# EAGLE library part FT232RL (library GClue)
FT232RL FTDI FT232RL USB to serial UART interface SSOP28
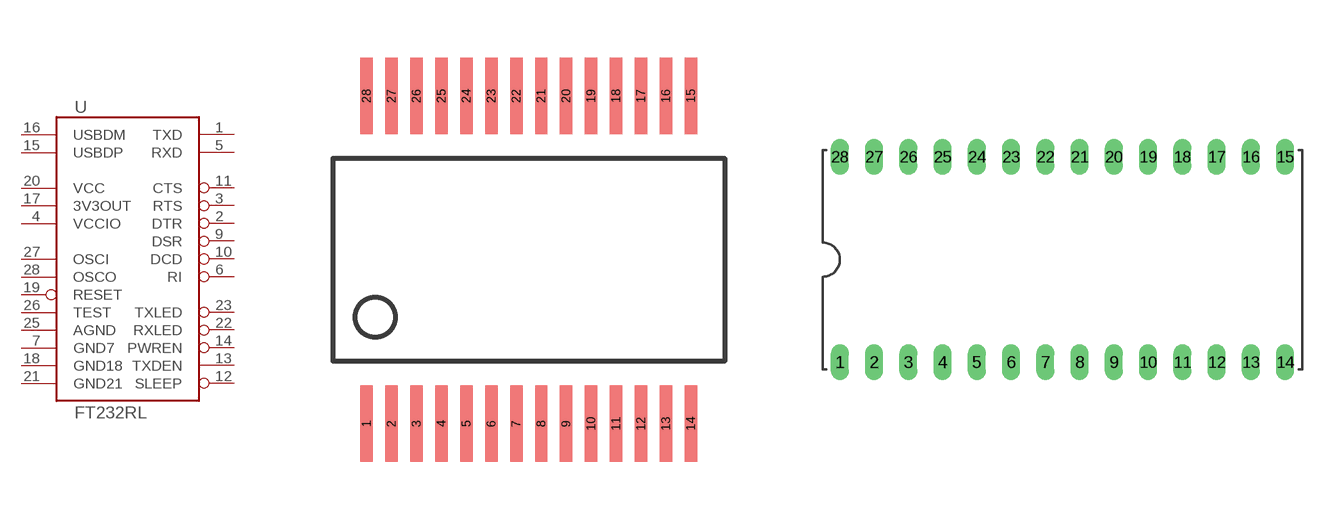
[diagram p11: symbol with the pads of SSOP28; footprints SSOP28, SSOP-DIP28]

Designator prefix U

## FT232RL-SSOP28  [SSOP28]
1  TXD  out
2  DTR  out
3  RTS  out
4  VCCIO  pwr
5  RXD  in
6  RI  in
7  GND7  pwr
9  DSR  in
10  DCD  in
11  CTS  in
12  SLEEP  in
13  TXDEN  in
14  PWREN  in
15  USBDP
16  USBDM
17  3V3OUT  out
18  GND18  pwr
19  RESET  in
20  VCC  pwr
21  GND21  pwr
22  RXLED  in
23  TXLED  in
25  AGND  pwr
26  TEST  in
27  OSCI  in
28  OSCO  out

## FT232RL-DIP28  [SSOP-DIP28]
Pads as for SSOP28

## Footprint SSOP28 (pad centres in mm)
SSOP28
smd 0.325 x 2: 1 -4.225,-4.275; 2 -3.575,-4.275; 3 -2.925,-4.275; 4 -2.275,-4.275; 5 -1.625,-4.275; 6 -0.975,-4.275; 7 -0.325,-4.275; 8 0.325,-4.275; 9 0.975,-4.275; 10 1.625,-4.275; 11 2.275,-4.275; 12 2.925,-4.275; 13 3.575,-4.275; 14 4.225,-4.275; 15 4.225,4.275; 16 3.575,4.275; 17 2.925,4.275; 18 2.275,4.275; 19 1.625,4.275; 20 0.975,4.275; 21 0.325,4.275; 22 -0.325,4.275; 23 -0.975,4.275; 24 -1.625,4.275; 25 -2.275,4.275; 26 -2.925,4.275; 27 -3.575,4.275; 28 -4.225,4.275

## Footprint SSOP-DIP28 (pad centres in mm)
drill 0.813 long: 1 -16.51,-7.62; 2 -13.97,-7.62; 3 -11.43,-7.62; 4 -8.89,-7.62; 5 -6.35,-7.62; 6 -3.81,-7.62; 7 -1.27,-7.62; 8 1.27,-7.62; 9 3.81,-7.62; 10 6.35,-7.62; 11 8.89,-7.62; 12 11.43,-7.62; 13 13.97,-7.62; 14 16.51,-7.62; 15 16.51,7.62; 16 13.97,7.62; 17 11.43,7.62; 18 8.89,7.62; 19 6.35,7.62; 20 3.81,7.62; 21 1.27,7.62; 22 -1.27,7.62; 23 -3.81,7.62; 24 -6.35,7.62; 25 -8.89,7.62; 26 -11.43,7.62; 27 -13.97,7.62; 28 -16.51,7.62